# EAGLE library part OPA2350PA (library OPA2350PA)
OPERATIONAL AMPLIFIER Source: Datasheet <http://www.ti.com/general/docs/suppproductinfo.tsp?distId=26&gotoUrl=http://www.ti.com/lit/gpn/opa2350>
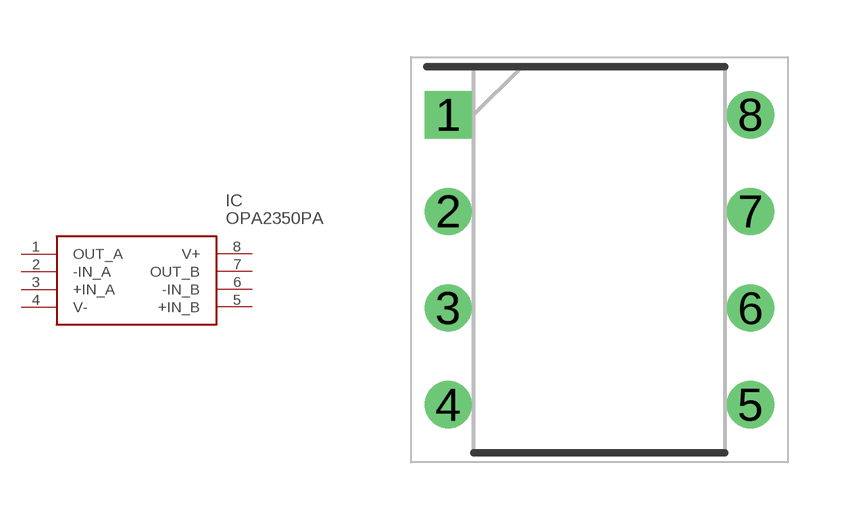
[diagram p0: symbol with the pads of DIP794W53P254L959H508Q8N; footprint DIP794W53P254L959H508Q8N]

Designator prefix IC

## OPA2350PA (Description: OPERATIONAL AMPLIFIER; Height: 5.08mm; Manufacturer_Name: Texas Instruments; Manufacturer_Part_Number: OPA2350PA; Mouser_Part_Number: 595-OPA2350PA; Mouser_Price-Stock: https://www.mouser.com/Search/Refine.aspx?Keyword=595-OPA2350PA)  [DIP794W53P254L959H508Q8N]
1  OUT_A
2  -IN_A
3  +IN_A
4  V-
5  +IN_B
6  -IN_B
7  OUT_B
8  V+

## Footprint DIP794W53P254L959H508Q8N (pad centres in mm)
P (R-PDIP-T8)
drill 0.73 pad 1.13 square: 1 -3.97,3.81
drill 0.73 pad 1.13: 2 -3.97,1.27; 3 -3.97,-1.27; 4 -3.97,-3.81; 5 3.97,-3.81; 6 3.97,-1.27; 7 3.97,1.27; 8 3.97,3.81